# Altium schematic symbol library PL431CDR.SchLib: 1 symbol
Pins are listed as number, name and electrical type; pins without a type are passive.

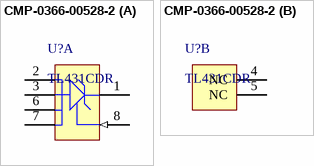
[diagram p0: symbol CMP-0366-00528-2]

## CMP-0366-00528-2
designator U?, comment TL431CDR
Adjustable Precision Shunt Regulator, 34 ppm / degC, 100 mA, 0 to 70 degC, 8-pin SOIC (D), Green (RoHS & no Sb/Br); Manufacturer: Texas Instruments; Iout/Iz(Max)(mA): 100; Temp Coeff(Typ)(ppm/ degree C): 34; VO Adj(Min)(V): 2.495; Initial Accuracy @ 25/deg C(%): 2; SubFamily: Shunt Voltage Reference; VO Adj(Max)(V): 36; Min Iz for Regulation(uA): 600; Temp Coeff(Max)(ppm/ degree C): 92; Rating: Military; Mounting Technology: Surface Mount; PartNumber: TL431CDR; ComponentLink2Description: Datasheet; ComponentLink2URL: http://www.ti.com/general/docs/lit/getliterature.tsp?genericPartNumber=TL431&fileType=pdf; Code_JEDEC: MS-012; PackageDescription: 8-Pin Plastic Small Outline, Body 4.9 x 3.9 mm, Pitch 1.27 mm; DatasheetVersion: SLVS543M; ComponentLink1URL: http://www.ti.com/; ComponentLink3URL: http://www.ti.com/litv/pdf/msoi002j; PackageVersion: 4040047-3/M; ComponentLink3Description: Package Specification; ComponentLink1Description: Manufacturer URL; PackageReference: D0008A; Eco-Plan: Green (RoHS & no Sb/Br)
footprint D0008A_N (SOIC, 8-Leads, Body 5x4mm, Pitch 1.27mm, IPC Medium Density)
footprint D0008A_L (SOIC, 8-Leads, Body 5x4mm, Pitch 1.27mm, IPC High Density)
footprint D0008A_M (SOIC, 8-Leads, Body 5x4mm, Pitch 1.27mm, IPC Low Density)
part A pins: 1 CATHODE, 2 ANODE, 3 ANODE, 6 ANODE, 7 ANODE, 8 REF (in)
part B pins: 4 NC "No internal connection", 5 NC "No internal connection"